# Altium footprint library PCB - LEADED - SOP - TI TSSOP-30 DBT0030A.PcbLib: 1 footprints
Each footprint in its own frame and in the unit in brackets; x right, y up, seen from the top. Pads: shape width x height; smd on the part's side, far side on the other; paste and mask are expansions set on the pad; w line width, h text height; cw(c..) or ccw(c..) is an arc to the next point about the centre after c.
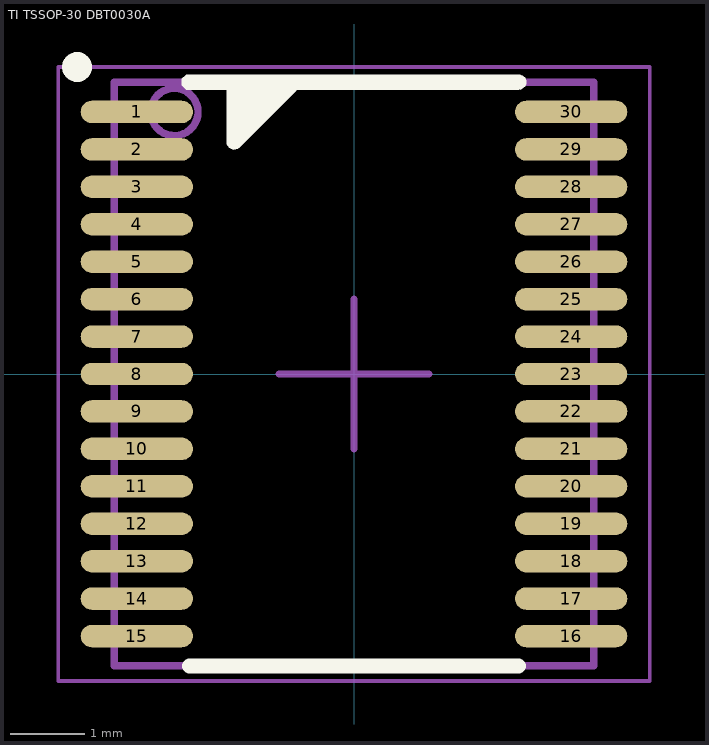
[diagram p0: the footprint, top view; thin cyan lines are the x and y axes]

## TI TSSOP-30 DBT0030A [mm] "TSSOP Package , 30-Leades, 4.40 x 7.80 mm Body , Pitch 0.50 mm"
height 1.2
pads (30):
  oval 1.5x0.3 smd: 1(-2.9,3.5) 2(-2.9,3) 3(-2.9,2.5) 4(-2.9,2) 5(-2.9,1.5) 6(-2.9,1) 7(-2.9,0.5) 8(-2.9,0) 9(-2.9,-0.5) 10(-2.9,-1) 11(-2.9,-1.5) 12(-2.9,-2) 13(-2.9,-2.5) 14(-2.9,-3) 15(-2.9,-3.5) 16(2.9,-3.5) 17(2.9,-3) 18(2.9,-2.5) 19(2.9,-2) 20(2.9,-1.5) 21(2.9,-1) 22(2.9,-0.5) 23(2.9,0) 24(2.9,0.5) 25(2.9,1) 26(2.9,1.5) 27(2.9,2) 28(2.9,2.5) 29(2.9,3) 30(2.9,3.5)
Top Overlay:
  circle w0.2: c-3.7,4.1 r0.1
  region: -1.7,3.1 -1.7,3.8 -2.2,3.8 -2.242,3.8 -2.3,3.858 -2.3,3.942 -2.242,4 -2.2,4 2.2,4 2.22,4 2.257,3.985 2.285,3.957 2.3,3.92 2.3,3.9 2.3,3.88 2.285,3.843 2.257,3.815 2.22,3.8 2.2,3.8 -0.763,3.8 -0.765,3.797 -0.768,3.791 -0.772,3.786 -0.777,3.781 -0.779,3.779 -1.529,3.029 -1.551,3.007 -1.61,2.996 -1.667,3.019 -1.7,3.07
  lines w0.2: -2.2,-3.9 2.2,-3.9 ; -2.2,3.9 2.2,3.9 ; -1.6,3.9 -1.6,3.1 -0.85,3.85
Mechanical 13:
  circle w0.1: c-2.4,3.5 r0.316
  lines w0.1: -3.2,-3.9 3.2,-3.9 3.2,3.9 -3.2,3.9 -3.2,-3.9
Mechanical 15:
  lines w0.05: -3.95,-4.1 -3.95,4.1 3.95,4.1 3.95,-4.1 -3.95,-4.1
  lines w0.1: -1,0 0,0 ; 0,-1 0,0 ; 0,1 0,0 ; 1,0 0,0
3D body "TI - TSSOP-30 - DBT0030A v4.step": height 1.2, standoff 0, extent -3.2,-3.9 3.2,3.9